# Altium footprint library WE-WPCC.PcbLib: 65 footprints (part 4 of 5)
Each footprint in its own frame and in the unit in brackets; x right, y up, seen from the top. Pads: shape width x height; smd on the part's side, far side on the other; paste and mask are expansions set on the pad; w line width, h text height; cw(c..) or ccw(c..) is an arc to the next point about the centre after c.
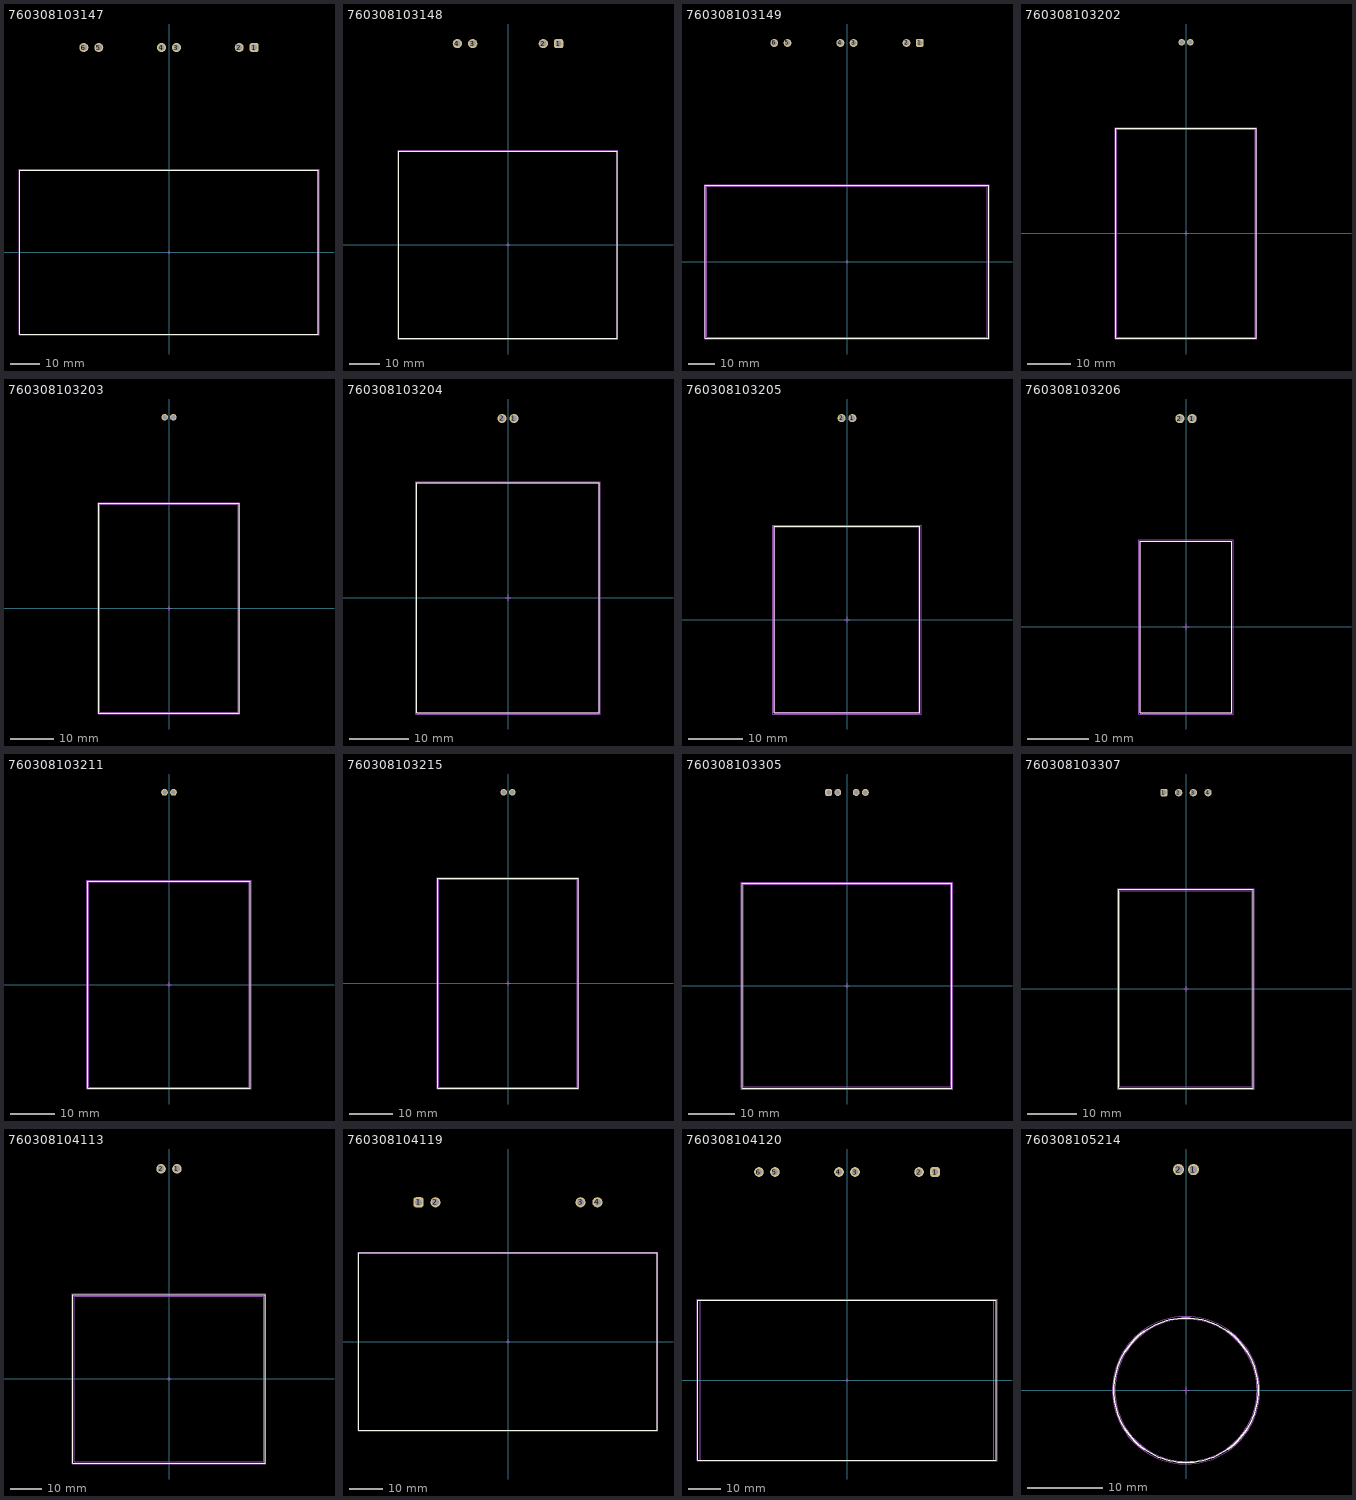
[diagram p3: the footprints below, top view; thin cyan lines are the x and y axes]

## 760308103147 [mm] "Wireless Power Array, body 100x55mm"
height 5.2
pads (6):
  rrect50% 3x3 hole 2: 1(28.5,68.5)
  round 3 hole 2: 2(23.5,68.5) 3(2.5,68.5) 4(-2.5,68.5) 5(-23.5,68.5) 6(-28.5,68.5)
Top Overlay:
  lines w0.2: -50,-27.5 -50,27.5 50,27.5 50,-27.5 -50,-27.5
Assembly Notes:
  text "Pitch 5mm min." at 19,65 h1.22
  text "Pitch 5mm min." at -6,65 h1.22
  text "Pitch 5mm min." at -32,65 h1.22
Top Component Outline:
  lines w0.1: -50,-27.5 -50,27.5 50,27.5 50,-27.5 -50,-27.5
Top 3D Body:
  lines w0.1: -50,-27.5 50,-27.5 50,27.5 -50,27.5 -50,-27.5
Top Courtyard:
  lines w0.05: -50.2,-27.7 50.2,-27.7 50.2,27.7 -50.2,27.7 -50.2,-27.7
Top Component Center:
  lines w0.05: -0.5,0 0.5,0 ; 0,-0.5 0,0.5
Top Designator (Mech19):
  text ".Designator" at -7.498,-0.5 h1.5
3D body "760308103147 (rev1).stp": height 4.23, standoff 0.05, extent -50,-27.5 50,76.5

## 760308103148 [mm] "Wireless Power Array, body 71x61mm"
height 4
pads (4):
  rrect50% 3x3 hole 2: 1(16.5,65.5)
  round 3 hole 2: 2(11.5,65.5) 3(-11.5,65.5) 4(-16.5,65.5)
Top Overlay:
  lines w0.2: -35.5,-30.5 -35.5,30.5 35.5,30.5 35.5,-30.5 -35.5,-30.5
Assembly Notes:
  text "Pitch 5mm min." at 7,62 h1.22
  text "Pitch 5mm min." at -20,62 h1.22
Top Component Outline:
  lines w0.1: -35.5,-30.5 -35.5,30.5 35.5,30.5 35.5,-30.5 -35.5,-30.5
Top 3D Body:
  lines w0.1: -35.5,-30.5 35.5,-30.5 35.5,30.5 -35.5,30.5 -35.5,-30.5
Top Courtyard:
  lines w0.05: -35.7,-30.7 35.7,-30.7 35.7,30.7 -35.7,30.7 -35.7,-30.7
Top Component Center:
  lines w0.05: -0.5,0 0.5,0 ; 0,-0.5 0,0.5
Top Designator (Mech19):
  text ".Designator" at -7.498,-0.5 h1.5
3D body "760308103148.stp": height 3.23, standoff 0.05, extent -35.5,-30.5 35.5,75.5

## 760308103149 [mm] "Wireless Power Transfer Transmitter Coil, body 106x57mm"
height 4.2
pads (6):
  rrect50% 3x3 hole 2: 1(27.5,82.7)
  round 3 hole 2: 2(22.5,82.7) 3(2.5,82.7) 4(-2.5,82.7) 5(-22.5,82.7) 6(-27.5,82.7)
Top Overlay:
  lines w0.2: -53.5,-29 -53.5,29 53.5,29 53.5,-29 -53.5,-29
Top Component Outline:
  lines w0.1: -53,-28.5 -53,28.5 53,28.5 53,-28.5 -53,-28.5
Top 3D Body:
  lines w0.1: -53,-28.5 53,-28.5 53,28.5 -53,28.5 -53,-28.5
Top Courtyard:
  lines w0.05: -53.7,-29.2 -53.7,29.2 53.7,29.2 53.7,-29.2 -53.7,-29.2
Top Component Center:
  lines w0.05: -0.5,0 0.5,0 ; 0,-0.5 0,0.5
Top Designator (Mech19):
  text ".Designator" at -7.498,-0.5 h1.5
3D body "760308103149.stp": height 3.84, standoff 0.05, extent -53,-28.5 53,88.7

## 760308103202 [mm] "Wireless Power Transfer Receiver Coil, body 32.3x48.3mm"
height 1.058
pads (2):
  round 1.5 hole 1: 1(1,44) 2(-1,44)
Top Overlay:
  lines w0.2: -16.15,-24.15 -16.15,24.15 16.15,24.15 16.15,-24.15 -16.15,-24.15
Assembly Notes:
  text "Pitch 2mm min." at -7,41 h1.22
Top Component Outline:
  lines w0.1: -16,-24 -16,24 16,24 16,-24 -16,-24
Top 3D Body:
  lines w0.1: -16,-24 16,-24 16,24 -16,24 -16,-24
Top Courtyard:
  lines w0.05: -16.35,-24.35 16.35,-24.35 16.35,24.35 -16.35,24.35 -16.35,-24.35
Top Component Center:
  lines w0.05: -0.5,0 0.5,0 ; 0,-0.5 0,0.5
Top Designator (Mech19):
  text ".Designator" at -7.498,-0.5 h1.5
3D body "760308103202 (rev1).stp": height 0.54, standoff -0.14, extent -16,-24 16,49

## 760308103203 [mm] "Wireless Power Transfer Receiver Coil, body 32.3x48.3mm"
height 1.058
pads (2):
  round 1.5 hole 1: 1(1,44) 2(-1,44)
Top Overlay:
  lines w0.2: -16.15,-24.15 -16.15,24.15 16.15,24.15 16.15,-24.15 -16.15,-24.15
Assembly Notes:
  text "Pitch 2mm min." at -7,41 h1.22
Top Component Outline:
  lines w0.1: -16,-24 -16,24 16,24 16,-24 -16,-24
Top 3D Body:
  lines w0.1: -16,-24 16,-24 16,24 -16,24 -16,-24
Top Courtyard:
  lines w0.05: -16.35,-24.35 16.35,-24.35 16.35,24.35 -16.35,24.35 -16.35,-24.35
Top Component Center:
  lines w0.05: -0.5,0 0.5,0 ; 0,-0.5 0,0.5
Top Designator (Mech19):
  text ".Designator" at -7.498,-0.5 h1.5
3D body "760308103203 (rev1).stp": height 0.56, standoff 0.05, extent -16,-24 16,49

## 760308103204 [mm] "Wireless Power Transfer Receiver Coil, body 30.5x38.5mm"
height 0.93
pads (2):
  round 1.5 hole 1: 1(1,30) 2(-1,30)
Top Overlay:
  lines w0.2: -15.25,-19.25 -15.25,19.25 15.25,19.25 15.25,-19.25 -15.25,-19.25
Assembly Notes:
  text "Pitch 2mm min." at -6,27 h1.22
Top Component Outline:
  lines w0.1: -15.25,-19.25 -15.25,19.25 15.25,19.25 15.25,-19.25 -15.25,-19.25
Top 3D Body:
  lines w0.1: -15.25,-19.25 15.25,-19.25 15.25,19.25 -15.25,19.25 -15.25,-19.25
Top Courtyard:
  lines w0.05: -15.45,-19.45 -15.45,19.45 15.45,19.45 15.45,-19.45 -15.45,-19.45
Top Component Center:
  lines w0.05: -0.5,0 0.5,0 ; 0,-0.5 0,0.5
Top Designator (Mech19):
  text ".Designator" at -7.498,-0.5 h1.5
3D body "760308103204 (rev1).stp": height 1.15, standoff 0.05, extent -15.25,-19.25 15.25,34.25

## 760308103205 [mm] "Wireless Power Transfer Receiver Coil, body 26.8x34.3mm"
height 1.19
pads (2):
  round 1.5 hole 1: 1(1,37) 2(-1,37)
Top Overlay:
  lines w0.2: -13.4,-17.15 -13.4,17.15 13.4,17.15 13.4,-17.15 -13.4,-17.15
Assembly Notes:
  text "Pitch 2mm min." at -7,34 h1.22
Top Component Outline:
  lines w0.1: -13.25,-17 -13.25,17 13.25,17 13.25,-17 -13.25,-17
Top 3D Body:
  lines w0.1: -13.25,-17 13.25,-17 13.25,17 -13.25,17 -13.25,-17
Top Courtyard:
  lines w0.05: -13.6,-17.35 13.6,-17.35 13.6,17.35 -13.6,17.35 -13.6,-17.35
Top Component Center:
  lines w0.05: -0.5,0 0.5,0 ; 0,-0.5 0,0.5
Top Designator (Mech19):
  text ".Designator" at -7.498,-0.5 h1.5
3D body "760308103205.stp": height 0.88, standoff 0.07, extent -13.25,-17 13.25,42

## 760308103206 [mm] "Wireless Power Transfer Receiver Coil, body 15x28mm"
height 0.728
pads (2):
  round 1.5 hole 1: 1(1,34) 2(-1,34)
Top Overlay:
  lines w0.2: -7.5,-14 -7.5,14 7.5,14 7.5,-14 -7.5,-14
Assembly Notes:
  text "Pitch 2mm min." at -6,31 h1.22
Top Component Outline:
  lines w0.1: -7.5,-14 -7.5,14 7.5,14 7.5,-14 -7.5,-14
Top 3D Body:
  lines w0.1: -7.5,-14 7.5,-14 7.5,14 -7.5,14 -7.5,-14
Top Courtyard:
  lines w0.05: -7.7,-14.2 7.7,-14.2 7.7,14.2 -7.7,14.2 -7.7,-14.2
Top Component Center:
  lines w0.05: -0.5,0 0.5,0 ; 0,-0.5 0,0.5
Top Designator (Mech19):
  text ".Designator" at -7.498,-0.5 h1.5
3D body "760308103206 (rev1).stp": height 0.89, standoff 0.08, extent -7.5,-14 7.5,39.01

## 760308103211 [mm] "Wireless Power Transfer Receiver Coil, body 36.3x46.3mm"
height 0.7
pads (2):
  round 1.5 hole 1: 1(1,43) 2(-1,43)
Top Overlay:
  lines w0.2: -18.15,-23.15 18.15,-23.15 18.15,23.15 -18.15,23.15 -18.15,-23.15
Assembly Notes:
  text "Pitch 2mm min." at -7,40 h1.22
Top Component Outline:
  lines w0.1: -18,-23 18,-23 18,23 -18,23 -18,-23
Top 3D Body:
  lines w0.1: -18,-23 -18,23 18,23 18,-23 -18,-23
Top Courtyard:
  lines w0.05: -18.35,-23.35 -18.35,23.35 18.35,23.35 18.35,-23.35 -18.35,-23.35
Top Component Center:
  lines w0.05: -0.5,0 0.5,0 ; 0,-0.5 0,0.5
Top Designator (Mech19):
  text ".Designator" at -7.498,-0.5 h1.5
3D body "760308103211 (rev1).stp": height 0.56, standoff 0.04, extent -18,-23 18,48

## 760308103215 [mm] "Wireless Power Transfer Receiver Coil, body 32.3x48.3mm"
height 1
pads (2):
  round 1.5 hole 1: 1(1,44) 2(-1,44)
Top Overlay:
  lines w0.2: -16.15,-24.15 -16.15,24.15 16.15,24.15 16.15,-24.15 -16.15,-24.15
Assembly Notes:
  text "Pitch 2mm min." at -7,41 h1.22
Top Component Outline:
  lines w0.1: -16,-24 -16,24 16,24 16,-24 -16,-24
Top 3D Body:
  lines w0.1: -16,-24 16,-24 16,24 -16,24 -16,-24
Top Courtyard:
  lines w0.05: -16.35,-24.35 16.35,-24.35 16.35,24.35 -16.35,24.35 -16.35,-24.35
Top Component Center:
  lines w0.05: -0.5,0 0.5,0 ; 0,-0.5 0,0.5
Top Designator (Mech19):
  text ".Designator" at -7.498,-0.5 h1.5
3D body "760308103215.stp": height 1.05, standoff 0.04, extent -16,-24 16,49

## 760308103305 [mm] "Wireless Power Transfer Receiver Coil, body 45.5x44.5mm"
height 1.02
pads (4):
  rrect50% 1.5x1.5 hole 1: 1(-4,42)
  round 1.5 hole 1: 2(-2,42) 3(2,42) 4(4,42)
Top Overlay:
  lines w0.2: -22.75,-22.25 -22.75,22.25 22.75,22.25 22.75,-22.25 -22.75,-22.25
Assembly Notes:
  text "Pitch 2mm min." at -6,39 h1.22
Top Component Outline:
  lines w0.1: -22.5,-22 22.5,-22 22.5,22 -22.5,22 -22.5,-22
Top 3D Body:
  lines w0.1: -22.5,-22 -22.5,22 22.5,22 22.5,-22 -22.5,-22
Top Courtyard:
  lines w0.05: -22.95,-22.45 -22.95,22.45 22.95,22.45 22.95,-22.45 -22.95,-22.45
Top Component Center:
  lines w0.05: -0.5,0 0.5,0 ; 0,-0.5 0,0.5
Top Designator (Mech19):
  text ".Designator" at -7.498,-0.5 h1.5
3D body "760308103305.stp": height 0.83, standoff 0.05, extent -22.5,-22 22.5,47

## 760308103307 [mm] "Wireless Power Transfer Receiver Coil, body 27.5x40.5mm"
height 1
pads (4):
  rrect50% 1.5x1.5 hole 1: 1(-4.5,40)
  round 1.5 hole 1: 2(-1.5,40) 3(1.5,40) 4(4.5,40)
Top Overlay:
  lines w0.2: -13.75,-20.25 -13.75,20.25 13.75,20.25 13.75,-20.25 -13.75,-20.25
Assembly Notes:
  text "Pitch 2mm min." at -6,37 h1.22
Top Component Outline:
  lines w0.1: -13.5,-20 13.5,-20 13.5,20 -13.5,20 -13.5,-20
Top 3D Body:
  lines w0.1: -13.5,-20 -13.5,20 13.5,20 13.5,-20 -13.5,-20
Top Courtyard:
  lines w0.05: -13.95,-20.45 -13.95,20.45 13.95,20.45 13.95,-20.45 -13.95,-20.45
Top Component Center:
  lines w0.05: -0.5,0 0.5,0 ; 0,-0.5 0,0.5
Top Designator (Mech19):
  text ".Designator" at -7.498,-0.5 h1.5
3D body "760308103307.stp": height 0.83, standoff 0.05, extent -13.5,-20 13.5,45

## 760308104113 [mm] "Wireless Power Transfer Receiver Coil, body 60.5x46.3mm"
height 4
pads (2):
  round 3 hole 2: 1(2.5,66) 2(-2.5,66)
Top Overlay:
  lines w0.2: -30.25,-26.5 -30.25,26.5 30.25,26.5 30.25,-26.5 -30.25,-26.5
Assembly Notes:
  text "Pitch 5mm min." at -6,63 h1.22
Top Component Outline:
  lines w0.1: -29.75,-26 29.75,-26 29.75,26 -29.75,26 -29.75,-26
Top 3D Body:
  lines w0.1: -29.75,-26 29.75,-26 29.75,26 -29.75,26 -29.75,-26
Top Courtyard:
  lines w0.05: -30.45,-26.7 -30.45,26.7 30.45,26.7 30.45,-26.7 -30.45,-26.7
Top Component Center:
  lines w0.05: -0.5,0 0.5,0 ; 0,-0.5 0,0.5
Top Designator (Mech19):
  text ".Designator" at -7.498,-0.5 h1.5
3D body "760308104113 (rev1).stp": height 4.95, standoff 0.05, extent -29.75,-26 29.75,76

## 760308104119 [mm] "Wireless Power Array, body 88.5x52.5mm"
height 3.5
pads (4):
  rrect50% 3x3 hole 2: 1(-26.5,41.25)
  round 3 hole 2: 2(-21.5,41.25) 3(21.5,41.25) 4(26.5,41.25)
Top Overlay:
  lines w0.2: -44.25,-26.25 44.25,-26.25 44.25,26.25 -44.25,26.25 -44.25,-26.25
Assembly Notes:
  text "Pitch 5mm min." at 17,38 h1.22
  text "Pitch 5mm min." at -30,38 h1.22
Top Component Outline:
  lines w0.1: -44.25,-26.25 44.25,-26.25 44.25,26.25 -44.25,26.25 -44.25,-26.25
Top 3D Body:
  lines w0.1: -44.25,-26.25 -44.25,26.25 44.25,26.25 44.25,-26.25 -44.25,-26.25
Top Courtyard:
  lines w0.05: -44.45,-26.45 44.45,-26.45 44.45,26.45 -44.45,26.45 -44.45,-26.45
Top Component Center:
  lines w0.05: -0.5,0 0.5,0 ; 0,-0.5 0,0.5
Top Designator (Mech19):
  text ".Designator" at -7.498,-0.5 h1.5
3D body "760308104119_A19.stp": height 3.33, standoff 0.05, extent -44.25,-26.25 44.25,46.25

## 760308104120 [mm] "Wireless Power Array, body 93.3x50mm"
height 5.5
pads (6):
  rrect50% 3x3 hole 2: 1(27.5,65)
  round 3 hole 2: 2(22.5,65) 3(2.5,65) 4(-2.5,65) 5(-22.5,65) 6(-27.5,65)
Top Overlay:
  lines w0.2: -46.65,-25 46.65,-25 46.65,25 -46.65,25 -46.65,-25
Assembly Notes:
  text "Pitch 5mm min." at 19,61 h1.22
  text "Pitch 5mm min." at -6,61 h1.22
  text "Pitch 5mm min." at -31,61 h1.22
Top Component Outline:
  lines w0.1: -45.85,-25 45.85,-25 45.85,25 -45.85,25 -45.85,-25
Top 3D Body:
  lines w0.1: -45.85,-25 -45.85,25 45.85,25 45.85,-25 -45.85,-25
Top Courtyard:
  lines w0.05: -46.85,-25.2 -46.85,25.2 46.85,25.2 46.85,-25.2 -46.85,-25.2
Top Component Center:
  lines w0.05: -0.5,0 0.5,0 ; 0,-0.5 0,0.5
Top Designator (Mech19):
  text ".Designator" at -7.498,-0.5 h1.5
3D body "760308104120.stp": height 3.26, standoff 0.05, extent -45.85,-25 45.85,75

## 760308105214 [mm] "Wireless Power Transfer Receiver Coil, body diameter 19mm"
height 1.02
pads (2):
  round 1.5 hole 1: 1(1,29.5) 2(-1,29.5)
Top Overlay:
  circle w0.2: c0,0 r9.65
Assembly Notes:
  text "Pitch 2mm min." at -6,27 h1.22
Top Component Outline:
  circle w0.1: c0,0 r9.5
Top 3D Body:
  circle w0.1: c0,0 r9.5
Top Courtyard:
  circle w0.05: c0,0 r9.85
Top Component Center:
  lines w0.05: -0.5,0 0.5,0 ; 0,-0.5 0,0.5
Top Designator (Mech19):
  text ".Designator" at -7.498,-0.5 h1.5
3D body "760308105214.stp": height 1, standoff 0.06, extent -9.5,-9.5 9.5,34.5